# Altium integrated library Capacitors - Ceramic - 0201.IntLib: 1723 symbols (part 29 of 38)
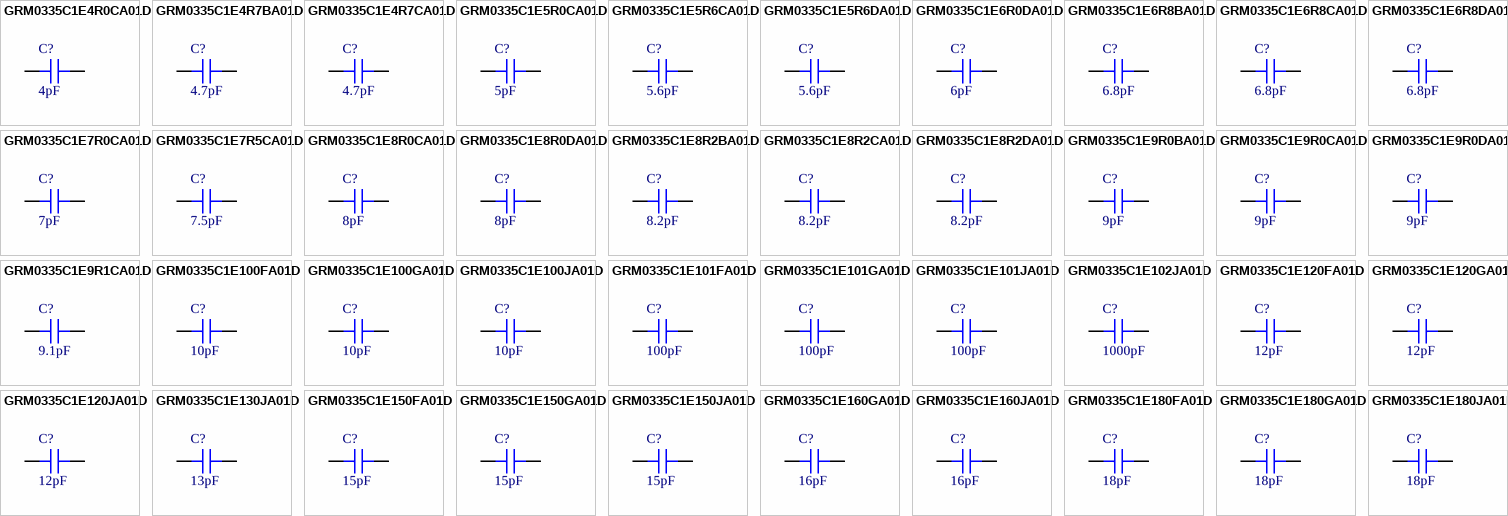
[diagram p71: symbols GRM0335C1E4R0CA01D to GRM0335C1E180JA01D]

## GRM0335C1E150FA01D
designator C?, comment 15pF
CAP CER 15PF 25V C0G/NP0 0201; Part Number: GRM0335C1E150FA01D; Manufacturer: Murata Electronics; Temperature Coefficient: C0G, NP0; Tolerance: ±1%; Value: 15pF; Applications: General Purpose; Capacitance: 15pF; ComponentLink1Description: Datasheet; ComponentLink1URL: https://www.murata.com/~/media/webrenewal/support/library/catalog/products/capacitor/mlcc/c02e.ashx?la=en-us; ComponentLink2Description: DigiKey Link; ComponentLink2URL: http://digikey.com/product-detail/en/murata-electronics/GRM0335C1E150FA01D/490-12675-1-ND/5797644; Device Package: 0201 (0603 Metric); LastUpdated: 9/2/2020 12:59:30 AM; Lifecycle Status: Active; Minimum Order: 1; Mounting Type: Surface Mount, MLCC; Operating Temperature: -55°C ~ 125°C; Package / Case: 0201 (0603 Metric); Packaging: CutTape; PartId: 575; Part Status: Active; Price: 0.10; Series: GRM; Size / Dimension: 0.024" L x 0.012" W (0.60mm x 0.30mm); Supplier 1: DigiKey; Supplier Part Number 1: 490-12675-1-ND; Thickness (Max): 0.013" (0.33mm); Voltage - Rated: 25V
footprint CAP 0201_0603
pins: 1, 2

## GRM0335C1E150GA01D
designator C?, comment 15pF
CAP CER 15PF 25V C0G/NP0 0201; Part Number: GRM0335C1E150GA01D; Manufacturer: Murata Electronics; Temperature Coefficient: C0G, NP0; Tolerance: ±2%; Value: 15pF; Applications: General Purpose; Capacitance: 15pF; ComponentLink1Description: Datasheet; ComponentLink1URL: https://search.murata.co.jp/Ceramy/image/img/A01X/G101/ENG/GRM0335C1E150GA01-01.pdf; ComponentLink2Description: DigiKey Link; ComponentLink2URL: http://digikey.com/product-detail/en/murata-electronics/GRM0335C1E150GA01D/490-14542-1-ND/6606148; Device Package: 0201 (0603 Metric); LastUpdated: 9/2/2020 12:59:34 AM; Lifecycle Status: Active; Minimum Order: 1; Mounting Type: Surface Mount, MLCC; Operating Temperature: -55°C ~ 125°C; Package / Case: 0201 (0603 Metric); Packaging: CutTape; PartId: 535; Part Status: Active; Price: 0.10; Series: GRM; Size / Dimension: 0.024" L x 0.012" W (0.60mm x 0.30mm); Supplier 1: DigiKey; Supplier Part Number 1: 490-14542-1-ND; Thickness (Max): 0.013" (0.33mm); Voltage - Rated: 25V
footprint CAP 0201_0603
pins: 1, 2

## GRM0335C1E150JA01D
designator C?, comment 15pF
CAP CER 15PF 25V C0G/NP0 0201; Part Number: GRM0335C1E150JA01D; Manufacturer: Murata Electronics; Temperature Coefficient: C0G, NP0; Tolerance: ±5%; Value: 15pF; Applications: General Purpose; Capacitance: 15pF; ComponentLink1Description: Datasheet; ComponentLink1URL: https://search.murata.co.jp/Ceramy/image/img/A01X/G101/ENG/GRM0335C1E150JA01-01.pdf; ComponentLink2Description: DigiKey Link; ComponentLink2URL: http://digikey.com/product-detail/en/murata-electronics/GRM0335C1E150JA01D/490-9658-1-ND/4934756; Device Package: 0201 (0603 Metric); LastUpdated: 9/2/2020 12:59:04 AM; Lifecycle Status: Active; Minimum Order: 1; Mounting Type: Surface Mount, MLCC; Operating Temperature: -55°C ~ 125°C; Package / Case: 0201 (0603 Metric); Packaging: CutTape; PartId: 876; Part Status: Active; Price: 0.10; Series: GRM; Size / Dimension: 0.024" L x 0.012" W (0.60mm x 0.30mm); Supplier 1: DigiKey; Supplier Part Number 1: 490-9658-1-ND; Thickness (Max): 0.013" (0.33mm); Voltage - Rated: 25V
footprint CAP 0201_0603
pins: 1, 2

## GRM0335C1E160GA01D
designator C?, comment 16pF
CAP CER 16PF 25V C0G/NP0 0201; Part Number: GRM0335C1E160GA01D; Manufacturer: Murata Electronics; Temperature Coefficient: C0G, NP0; Tolerance: ±2%; Value: 16pF; Applications: General Purpose; Capacitance: 16pF; ComponentLink1Description: Datasheet; ComponentLink1URL: https://search.murata.co.jp/Ceramy/image/img/A01X/G101/ENG/GRM0335C1E160GA01-01.pdf; ComponentLink2Description: DigiKey Link; ComponentLink2URL: http://digikey.com/product-detail/en/murata-electronics/GRM0335C1E160GA01D/490-14543-1-ND/6606149; Device Package: 0201 (0603 Metric); LastUpdated: 9/2/2020 1:00:16 AM; Lifecycle Status: Active; Minimum Order: 1; Mounting Type: Surface Mount, MLCC; Operating Temperature: -55°C ~ 125°C; Package / Case: 0201 (0603 Metric); Packaging: CutTape; PartId: 37; Part Status: Active; Price: 0.10; Series: GRM; Size / Dimension: 0.024" L x 0.012" W (0.60mm x 0.30mm); Supplier 1: DigiKey; Supplier Part Number 1: 490-14543-1-ND; Thickness (Max): 0.013" (0.33mm); Voltage - Rated: 25V
footprint CAP 0201_0603
pins: 1, 2

## GRM0335C1E160JA01D
designator C?, comment 16pF
CAP CER 16PF 25V NP0 0201; Part Number: GRM0335C1E160JA01D; Manufacturer: Murata Electronics; Temperature Coefficient: C0G, NP0; Tolerance: ±5%; Value: 16pF; Applications: General Purpose; Capacitance: 16pF; ComponentLink1Description: Datasheet; ComponentLink1URL: https://search.murata.co.jp/Ceramy/image/img/A01X/G101/ENG/GRM0335C1E160JA01-01.pdf; ComponentLink2Description: DigiKey Link; ComponentLink2URL: http://digikey.com/product-detail/en/murata-electronics/GRM0335C1E160JA01D/490-16712-1-ND/7595620; Device Package: 0201 (0603 Metric); LastUpdated: 9/2/2020 12:58:59 AM; Lifecycle Status: Active; Minimum Order: 1; Mounting Type: Surface Mount, MLCC; Operating Temperature: -55°C ~ 125°C; Package / Case: 0201 (0603 Metric); Packaging: CutTape; PartId: 941; Part Status: Active; Price: 0.10; Series: GRM; Size / Dimension: 0.024" L x 0.012" W (0.60mm x 0.30mm); Supplier 1: DigiKey; Supplier Part Number 1: 490-16712-1-ND; Thickness (Max): 0.013" (0.33mm); Voltage - Rated: 25V
footprint CAP 0201_0603
pins: 1, 2

## GRM0335C1E180FA01D
designator C?, comment 18pF
CAP CER 18PF 25V NP0 0201; Part Number: GRM0335C1E180FA01D; Manufacturer: Murata Electronics; Temperature Coefficient: C0G, NP0; Tolerance: ±1%; Value: 18pF; Applications: General Purpose; Capacitance: 18pF; ComponentLink1Description: Datasheet; ComponentLink1URL: https://search.murata.co.jp/Ceramy/image/img/A01X/G101/ENG/GRM0335C1E180FA01-01.pdf; ComponentLink2Description: DigiKey Link; ComponentLink2URL: http://digikey.com/product-detail/en/murata-electronics/GRM0335C1E180FA01D/490-17804-1-ND/8540040; Device Package: 0201 (0603 Metric); LastUpdated: 9/2/2020 1:00:16 AM; Lifecycle Status: Active; Minimum Order: 1; Mounting Type: Surface Mount, MLCC; Operating Temperature: -55°C ~ 125°C; Package / Case: 0201 (0603 Metric); Packaging: CutTape; PartId: 38; Part Status: Active; Price: 0.10; Series: GRM; Size / Dimension: 0.024" L x 0.012" W (0.60mm x 0.30mm); Supplier 1: DigiKey; Supplier Part Number 1: 490-17804-1-ND; Thickness (Max): 0.013" (0.33mm); Voltage - Rated: 25V
footprint CAP 0201_0603
pins: 1, 2

## GRM0335C1E180GA01D
designator C?, comment 18pF
CAP CER 18PF 25V C0G/NP0 0201; Part Number: GRM0335C1E180GA01D; Manufacturer: Murata Electronics; Temperature Coefficient: C0G, NP0; Tolerance: ±2%; Value: 18pF; Applications: General Purpose; Capacitance: 18pF; ComponentLink1Description: Datasheet; ComponentLink1URL: https://www.murata.com/~/media/webrenewal/support/library/catalog/products/capacitor/mlcc/c02e.ashx?la=en-us; ComponentLink2Description: DigiKey Link; ComponentLink2URL: http://digikey.com/product-detail/en/murata-electronics/GRM0335C1E180GA01D/490-11283-1-ND/5333123; Device Package: 0201 (0603 Metric); LastUpdated: 9/2/2020 12:59:36 AM; Lifecycle Status: Active; Minimum Order: 1; Mounting Type: Surface Mount, MLCC; Operating Temperature: -55°C ~ 125°C; Package / Case: 0201 (0603 Metric); Packaging: CutTape; PartId: 504; Part Status: Active; Price: 0.10; Series: GRM; Size / Dimension: 0.024" L x 0.012" W (0.60mm x 0.30mm); Supplier 1: DigiKey; Supplier Part Number 1: 490-11283-1-ND; Thickness (Max): 0.013" (0.33mm); Voltage - Rated: 25V
footprint CAP 0201_0603
pins: 1, 2

## GRM0335C1E180JA01D
designator C?, comment 18pF
CAP CER 18PF 25V C0G/NP0 0201; Part Number: GRM0335C1E180JA01D; Manufacturer: Murata Electronics; Temperature Coefficient: C0G, NP0; Tolerance: ±5%; Value: 18pF; Applications: General Purpose; Capacitance: 18pF; ComponentLink1Description: Datasheet; ComponentLink1URL: https://www.murata.com/~/media/webrenewal/support/library/catalog/products/capacitor/mlcc/c02e.ashx?la=en-us; ComponentLink2Description: DigiKey Link; ComponentLink2URL: http://digikey.com/product-detail/en/murata-electronics/GRM0335C1E180JA01D/490-9659-1-ND/4934758; Device Package: 0201 (0603 Metric); LastUpdated: 9/2/2020 12:59:04 AM; Lifecycle Status: Active; Minimum Order: 1; Mounting Type: Surface Mount, MLCC; Operating Temperature: -55°C ~ 125°C; Package / Case: 0201 (0603 Metric); Packaging: CutTape; PartId: 875; Part Status: Active; Price: 0.10; Series: GRM; Size / Dimension: 0.024" L x 0.012" W (0.60mm x 0.30mm); Supplier 1: DigiKey; Supplier Part Number 1: 490-9659-1-ND; Thickness (Max): 0.013" (0.33mm); Voltage - Rated: 25V
footprint CAP 0201_0603
pins: 1, 2

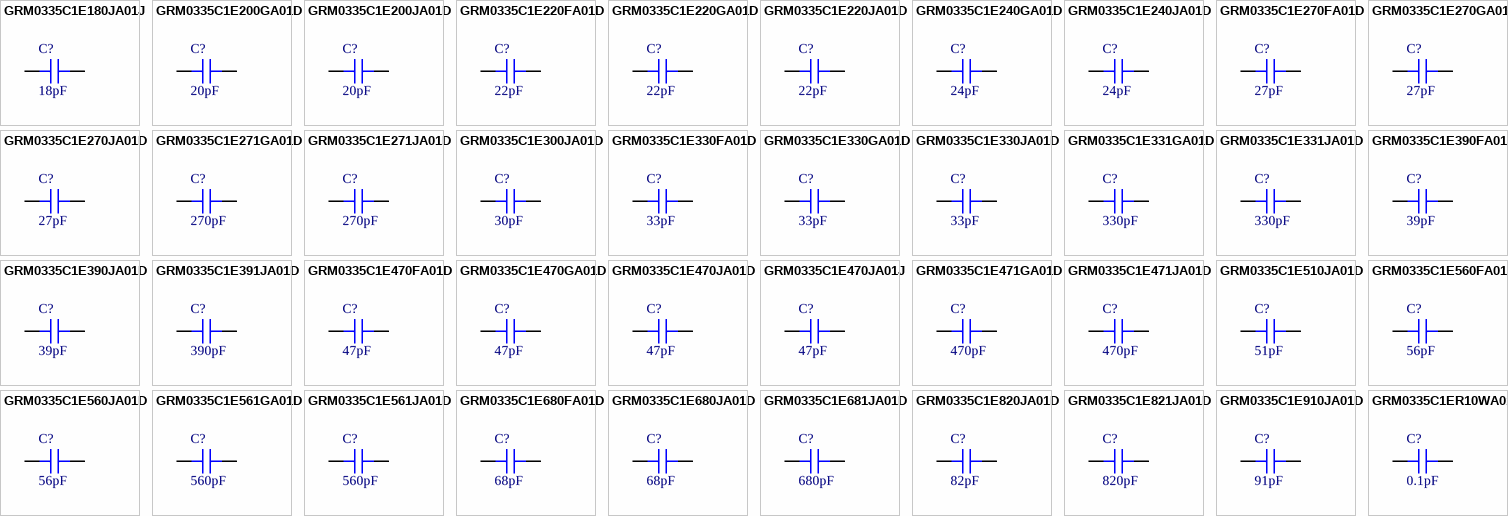
[diagram p32: symbols GRM0335C1E180JA01J to GRM0335C1ER10WA01D]

## GRM0335C1E180JA01J
designator C?, comment 18pF
CAP CER 18PF 25V C0G/NP0 0201; Part Number: GRM0335C1E180JA01J; Manufacturer: Murata Electronics; Temperature Coefficient: C0G, NP0; Tolerance: ±5%; Value: 18pF; Applications: General Purpose; Capacitance: 18pF; ComponentLink1Description: Datasheet; ComponentLink1URL: https://search.murata.co.jp/Ceramy/image/img/A01X/G101/ENG/GRM0335C1E180JA01-01.pdf; ComponentLink2Description: DigiKey Link; ComponentLink2URL: http://digikey.com/product-detail/en/murata-electronics/GRM0335C1E180JA01J/490-14544-1-ND/6606150; Device Package: 0201 (0603 Metric); LastUpdated: 9/2/2020 12:59:06 AM; Lifecycle Status: Active; Minimum Order: 1; Mounting Type: Surface Mount, MLCC; Operating Temperature: -55°C ~ 125°C; Package / Case: 0201 (0603 Metric); Packaging: CutTape; PartId: 857; Part Status: Active; Price: 0.10; Series: GRM; Size / Dimension: 0.024" L x 0.012" W (0.60mm x 0.30mm); Supplier 1: DigiKey; Supplier Part Number 1: 490-14544-1-ND; Thickness (Max): 0.013" (0.33mm); Voltage - Rated: 25V
footprint CAP 0201_0603
pins: 1, 2

## GRM0335C1E200GA01D
designator C?, comment 20pF
CAP CER 20PF 25V NP0 0201; Part Number: GRM0335C1E200GA01D; Manufacturer: Murata Electronics; Temperature Coefficient: C0G, NP0; Tolerance: ±2%; Value: 20pF; Applications: General Purpose; Capacitance: 20pF; ComponentLink1Description: Datasheet; ComponentLink1URL: https://search.murata.co.jp/Ceramy/image/img/A01X/G101/ENG/GRM0335C1E200GA01-01.pdf; ComponentLink2Description: DigiKey Link; ComponentLink2URL: http://digikey.com/product-detail/en/murata-electronics/GRM0335C1E200GA01D/490-17806-1-ND/8540042; Device Package: 0201 (0603 Metric); LastUpdated: 9/2/2020 12:58:18 AM; Lifecycle Status: Active; Minimum Order: 1; Mounting Type: Surface Mount, MLCC; Operating Temperature: -55°C ~ 125°C; Package / Case: 0201 (0603 Metric); Packaging: CutTape; PartId: 1409; Part Status: Active; Price: 0.10; Series: GRM; Size / Dimension: 0.024" L x 0.012" W (0.60mm x 0.30mm); Supplier 1: DigiKey; Supplier Part Number 1: 490-17806-1-ND; Thickness (Max): 0.013" (0.33mm); Voltage - Rated: 25V
footprint CAP 0201_0603
pins: 1, 2

## GRM0335C1E200JA01D
designator C?, comment 20pF
CAP CER 20PF 25V C0G/NP0 0201; Part Number: GRM0335C1E200JA01D; Manufacturer: Murata Electronics; Temperature Coefficient: C0G, NP0; Tolerance: ±5%; Value: 20pF; Applications: General Purpose; Capacitance: 20pF; ComponentLink1Description: Datasheet; ComponentLink1URL: https://www.murata.com/~/media/webrenewal/support/library/catalog/products/capacitor/mlcc/c02e.ashx?la=en-us; ComponentLink2Description: DigiKey Link; ComponentLink2URL: http://digikey.com/product-detail/en/murata-electronics/GRM0335C1E200JA01D/490-9618-1-ND/4865764; Device Package: 0201 (0603 Metric); LastUpdated: 9/2/2020 12:59:01 AM; Lifecycle Status: Active; Minimum Order: 1; Mounting Type: Surface Mount, MLCC; Operating Temperature: -55°C ~ 125°C; Package / Case: 0201 (0603 Metric); Packaging: CutTape; PartId: 915; Part Status: Active; Price: 0.10; Series: GRM; Size / Dimension: 0.024" L x 0.012" W (0.60mm x 0.30mm); Supplier 1: DigiKey; Supplier Part Number 1: 490-9618-1-ND; Thickness (Max): 0.013" (0.33mm); Voltage - Rated: 25V
footprint CAP 0201_0603
pins: 1, 2

## GRM0335C1E220FA01D
designator C?, comment 22pF
CAP CER 22PF 25V C0G/NP0 0201; Part Number: GRM0335C1E220FA01D; Manufacturer: Murata Electronics; Temperature Coefficient: C0G, NP0; Tolerance: ±1%; Value: 22pF; Applications: General Purpose; Capacitance: 22pF; ComponentLink1Description: Datasheet; ComponentLink1URL: https://search.murata.co.jp/Ceramy/image/img/A01X/G101/ENG/GRM0335C1E220FA01-01.pdf; ComponentLink2Description: DigiKey Link; ComponentLink2URL: http://digikey.com/product-detail/en/murata-electronics/GRM0335C1E220FA01D/490-14545-1-ND/6606151; Device Package: 0201 (0603 Metric); LastUpdated: 9/2/2020 12:58:14 AM; Lifecycle Status: Active; Minimum Order: 1; Mounting Type: Surface Mount, MLCC; Operating Temperature: -55°C ~ 125°C; Package / Case: 0201 (0603 Metric); Packaging: CutTape; PartId: 1443; Part Status: Active; Price: 0.10; Series: GRM; Size / Dimension: 0.024" L x 0.012" W (0.60mm x 0.30mm); Supplier 1: DigiKey; Supplier Part Number 1: 490-14545-1-ND; Thickness (Max): 0.013" (0.33mm); Voltage - Rated: 25V
footprint CAP 0201_0603
pins: 1, 2

## GRM0335C1E220GA01D
designator C?, comment 22pF
CAP CER 22PF 25V C0G/NP0 0201; Part Number: GRM0335C1E220GA01D; Manufacturer: Murata Electronics; Temperature Coefficient: C0G, NP0; Tolerance: ±2%; Value: 22pF; Applications: General Purpose; Capacitance: 22pF; ComponentLink1Description: Datasheet; ComponentLink1URL: https://search.murata.co.jp/Ceramy/image/img/A01X/G101/ENG/GRM0335C1E220GA01-01.pdf; ComponentLink2Description: DigiKey Link; ComponentLink2URL: http://digikey.com/product-detail/en/murata-electronics/GRM0335C1E220GA01D/490-11969-1-ND/5403178; Device Package: 0201 (0603 Metric); LastUpdated: 9/2/2020 12:59:34 AM; Lifecycle Status: Active; Minimum Order: 1; Mounting Type: Surface Mount, MLCC; Operating Temperature: -55°C ~ 125°C; Package / Case: 0201 (0603 Metric); Packaging: CutTape; PartId: 530; Part Status: Active; Price: 0.10; Series: GRM; Size / Dimension: 0.024" L x 0.012" W (0.60mm x 0.30mm); Supplier 1: DigiKey; Supplier Part Number 1: 490-11969-1-ND; Thickness (Max): 0.013" (0.33mm); Voltage - Rated: 25V
footprint CAP 0201_0603
pins: 1, 2

## GRM0335C1E220JA01D
designator C?, comment 22pF
CAP CER 22PF 25V C0G/NP0 0201; Part Number: GRM0335C1E220JA01D; Manufacturer: Murata Electronics; Temperature Coefficient: C0G, NP0; Tolerance: ±5%; Value: 22pF; Applications: General Purpose; Capacitance: 22pF; ComponentLink1Description: Datasheet; ComponentLink1URL: https://search.murata.co.jp/Ceramy/image/img/A01X/G101/ENG/GRM0335C1E220JA01-01.pdf; ComponentLink2Description: DigiKey Link; ComponentLink2URL: http://digikey.com/product-detail/en/murata-electronics/GRM0335C1E220JA01D/490-1253-1-ND/587960; Device Package: 0201 (0603 Metric); LastUpdated: 9/2/2020 12:59:02 AM; Lifecycle Status: Active; Minimum Order: 1; Mounting Type: Surface Mount, MLCC; Operating Temperature: -55°C ~ 125°C; Package / Case: 0201 (0603 Metric); Packaging: CutTape; PartId: 903; Part Status: Active; Price: 0.10; Series: GRM; Size / Dimension: 0.024" L x 0.012" W (0.60mm x 0.30mm); Supplier 1: DigiKey; Supplier Part Number 1: 490-1253-1-ND; Thickness (Max): 0.013" (0.33mm); Voltage - Rated: 25V
footprint CAP 0201_0603
pins: 1, 2

## GRM0335C1E240GA01D
designator C?, comment 24pF
CAP CER 24PF 25V C0G/NP0 0201; Part Number: GRM0335C1E240GA01D; Manufacturer: Murata Electronics; Temperature Coefficient: C0G, NP0; Tolerance: ±2%; Value: 24pF; Applications: General Purpose; Capacitance: 24pF; ComponentLink1Description: Datasheet; ComponentLink1URL: https://www.murata.com/~/media/webrenewal/support/library/catalog/products/capacitor/mlcc/c02e.ashx?la=en-us; ComponentLink2Description: DigiKey Link; ComponentLink2URL: http://digikey.com/product-detail/en/murata-electronics/GRM0335C1E240GA01D/490-11289-1-ND/5333129; Device Package: 0201 (0603 Metric); LastUpdated: 9/2/2020 12:59:33 AM; Lifecycle Status: Active; Minimum Order: 1; Mounting Type: Surface Mount, MLCC; Operating Temperature: -55°C ~ 125°C; Package / Case: 0201 (0603 Metric); Packaging: CutTape; PartId: 547; Part Status: Active; Price: 0.10; Series: GRM; Size / Dimension: 0.024" L x 0.012" W (0.60mm x 0.30mm); Supplier 1: DigiKey; Supplier Part Number 1: 490-11289-1-ND; Thickness (Max): 0.013" (0.33mm); Voltage - Rated: 25V
footprint CAP 0201_0603
pins: 1, 2

## GRM0335C1E240JA01D
designator C?, comment 24pF
CAP CER 24PF 25V C0G/NP0 0201; Part Number: GRM0335C1E240JA01D; Manufacturer: Murata Electronics; Temperature Coefficient: C0G, NP0; Tolerance: ±5%; Value: 24pF; Applications: General Purpose; Capacitance: 24pF; ComponentLink1Description: Datasheet; ComponentLink1URL: https://www.murata.com/~/media/webrenewal/support/library/catalog/products/capacitor/mlcc/c02e.ashx?la=en-us; ComponentLink2Description: DigiKey Link; ComponentLink2URL: http://digikey.com/product-detail/en/murata-electronics/GRM0335C1E240JA01D/490-13320-1-ND/5973332; Device Package: 0201 (0603 Metric); LastUpdated: 9/2/2020 12:58:59 AM; Lifecycle Status: Active; Minimum Order: 1; Mounting Type: Surface Mount, MLCC; Operating Temperature: -55°C ~ 125°C; Package / Case: 0201 (0603 Metric); Packaging: CutTape; PartId: 933; Part Status: Active; Price: 0.10; Series: GRM; Size / Dimension: 0.024" L x 0.012" W (0.60mm x 0.30mm); Supplier 1: DigiKey; Supplier Part Number 1: 490-13320-1-ND; Thickness (Max): 0.013" (0.33mm); Voltage - Rated: 25V
footprint CAP 0201_0603
pins: 1, 2

## GRM0335C1E270FA01D
designator C?, comment 27pF
CAP CER 27PF 25V NP0 0201; Part Number: GRM0335C1E270FA01D; Manufacturer: Murata Electronics; Temperature Coefficient: C0G, NP0; Tolerance: ±1%; Value: 27pF; Applications: General Purpose; Capacitance: 27pF; ComponentLink1Description: Datasheet; ComponentLink1URL: https://search.murata.co.jp/Ceramy/image/img/A01X/G101/ENG/GRM0335C1E270FA01-01.pdf; ComponentLink2Description: DigiKey Link; ComponentLink2URL: http://digikey.com/product-detail/en/murata-electronics/GRM0335C1E270FA01D/490-16713-1-ND/7595621; Device Package: 0201 (0603 Metric); LastUpdated: 9/2/2020 12:58:54 AM; Lifecycle Status: Active; Minimum Order: 1; Mounting Type: Surface Mount, MLCC; Operating Temperature: -55°C ~ 125°C; Package / Case: 0201 (0603 Metric); Packaging: CutTape; PartId: 997; Part Status: Active; Price: 0.10; Series: GRM; Size / Dimension: 0.024" L x 0.012" W (0.60mm x 0.30mm); Supplier 1: DigiKey; Supplier Part Number 1: 490-16713-1-ND; Thickness (Max): 0.013" (0.33mm); Voltage - Rated: 25V
footprint CAP 0201_0603
pins: 1, 2

## GRM0335C1E270GA01D
designator C?, comment 27pF
CAP CER 27PF 25V NP0 0201; Part Number: GRM0335C1E270GA01D; Manufacturer: Murata Electronics; Temperature Coefficient: C0G, NP0; Tolerance: ±2%; Value: 27pF; Applications: General Purpose; Capacitance: 27pF; ComponentLink1Description: Datasheet; ComponentLink1URL: https://search.murata.co.jp/Ceramy/image/img/A01X/G101/ENG/GRM0335C1E270GA01-01.pdf; ComponentLink2Description: DigiKey Link; ComponentLink2URL: http://digikey.com/product-detail/en/murata-electronics/GRM0335C1E270GA01D/490-16714-1-ND/7595622; Device Package: 0201 (0603 Metric); LastUpdated: 9/2/2020 12:59:33 AM; Lifecycle Status: Active; Minimum Order: 1; Mounting Type: Surface Mount, MLCC; Operating Temperature: -55°C ~ 125°C; Package / Case: 0201 (0603 Metric); Packaging: CutTape; PartId: 545; Part Status: Active; Price: 0.10; Series: GRM; Size / Dimension: 0.024" L x 0.012" W (0.60mm x 0.30mm); Supplier 1: DigiKey; Supplier Part Number 1: 490-16714-1-ND; Thickness (Max): 0.013" (0.33mm); Voltage - Rated: 25V
footprint CAP 0201_0603
pins: 1, 2

## GRM0335C1E270JA01D
designator C?, comment 27pF
CAP CER 27PF 25V C0G/NP0 0201; Part Number: GRM0335C1E270JA01D; Manufacturer: Murata Electronics; Temperature Coefficient: C0G, NP0; Tolerance: ±5%; Value: 27pF; Applications: General Purpose; Capacitance: 27pF; ComponentLink1Description: Datasheet; ComponentLink1URL: https://www.murata.com/~/media/webrenewal/support/library/catalog/products/capacitor/mlcc/c02e.ashx?la=en-us; ComponentLink2Description: DigiKey Link; ComponentLink2URL: http://digikey.com/product-detail/en/murata-electronics/GRM0335C1E270JA01D/490-3150-1-ND/702691; Device Package: 0201 (0603 Metric); LastUpdated: 9/2/2020 12:59:06 AM; Lifecycle Status: Active; Minimum Order: 1; Mounting Type: Surface Mount, MLCC; Operating Temperature: -55°C ~ 125°C; Package / Case: 0201 (0603 Metric); Packaging: CutTape; PartId: 858; Part Status: Active; Price: 0.10; Series: GRM; Size / Dimension: 0.024" L x 0.012" W (0.60mm x 0.30mm); Supplier 1: DigiKey; Supplier Part Number 1: 490-3150-1-ND; Thickness (Max): 0.013" (0.33mm); Voltage - Rated: 25V
footprint CAP 0201_0603
pins: 1, 2

## GRM0335C1E271GA01D
designator C?, comment 270pF
CAP CER 270PF 25V C0G/NP0 0201; Part Number: GRM0335C1E271GA01D; Manufacturer: Murata Electronics; Temperature Coefficient: C0G, NP0; Tolerance: ±2%; Value: 270pF; Applications: General Purpose; Capacitance: 270pF; ComponentLink1Description: Datasheet; ComponentLink1URL: https://search.murata.co.jp/Ceramy/image/img/A01X/G101/ENG/GRM0335C1E271GA01-01.pdf; ComponentLink2Description: DigiKey Link; ComponentLink2URL: http://digikey.com/product-detail/en/murata-electronics/GRM0335C1E271GA01D/490-16373-1-ND/7363355; Device Package: 0201 (0603 Metric); LastUpdated: 9/2/2020 1:00:15 AM; Lifecycle Status: Active; Minimum Order: 1; Mounting Type: Surface Mount, MLCC; Operating Temperature: -55°C ~ 125°C; Package / Case: 0201 (0603 Metric); Packaging: CutTape; PartId: 43; Part Status: Active; Price: 0.10; Series: GRM; Size / Dimension: 0.024" L x 0.012" W (0.60mm x 0.30mm); Supplier 1: DigiKey; Supplier Part Number 1: 490-16373-1-ND; Thickness (Max): 0.013" (0.33mm); Voltage - Rated: 25V
footprint CAP 0201_0603
pins: 1, 2

## GRM0335C1E271JA01D
designator C?, comment 270pF
CAP CER 270PF 25V C0G/NP0 0201; Part Number: GRM0335C1E271JA01D; Manufacturer: Murata Electronics; Temperature Coefficient: C0G, NP0; Tolerance: ±5%; Value: 270pF; Applications: General Purpose; Capacitance: 270pF; ComponentLink1Description: Datasheet; ComponentLink1URL: https://search.murata.co.jp/Ceramy/image/img/A01X/G101/ENG/GRM0335C1E271JA01-01.pdf; ComponentLink2Description: DigiKey Link; ComponentLink2URL: http://digikey.com/product-detail/en/murata-electronics/GRM0335C1E271JA01D/490-16995-1-ND/7601994; Device Package: 0201 (0603 Metric); LastUpdated: 9/2/2020 12:58:19 AM; Lifecycle Status: Active; Minimum Order: 1; Mounting Type: Surface Mount, MLCC; Operating Temperature: -55°C ~ 125°C; Package / Case: 0201 (0603 Metric); Packaging: CutTape; PartId: 1397; Part Status: Active; Price: 0.10; Series: GRM; Size / Dimension: 0.024" L x 0.012" W (0.60mm x 0.30mm); Supplier 1: DigiKey; Supplier Part Number 1: 490-16995-1-ND; Thickness (Max): 0.013" (0.33mm); Voltage - Rated: 25V
footprint CAP 0201_0603
pins: 1, 2

## GRM0335C1E300JA01D
designator C?, comment 30pF
CAP CER 30PF 25V C0G/NP0 0201; Part Number: GRM0335C1E300JA01D; Manufacturer: Murata Electronics; Temperature Coefficient: C0G, NP0; Tolerance: ±5%; Value: 30pF; Applications: General Purpose; Capacitance: 30pF; ComponentLink1Description: Datasheet; ComponentLink1URL: https://www.murata.com/~/media/webrenewal/support/library/catalog/products/capacitor/mlcc/c02e.ashx?la=en-us; ComponentLink2Description: DigiKey Link; ComponentLink2URL: http://digikey.com/product-detail/en/murata-electronics/GRM0335C1E300JA01D/490-12677-1-ND/5797646; Device Package: 0201 (0603 Metric); LastUpdated: 9/2/2020 12:59:01 AM; Lifecycle Status: Active; Minimum Order: 1; Mounting Type: Surface Mount, MLCC; Operating Temperature: -55°C ~ 125°C; Package / Case: 0201 (0603 Metric); Packaging: CutTape; PartId: 916; Part Status: Active; Price: 0.10; Series: GRM; Size / Dimension: 0.024" L x 0.012" W (0.60mm x 0.30mm); Supplier 1: DigiKey; Supplier Part Number 1: 490-12677-1-ND; Thickness (Max): 0.013" (0.33mm); Voltage - Rated: 25V
footprint CAP 0201_0603
pins: 1, 2

## GRM0335C1E330FA01D
designator C?, comment 33pF
CAP CER 33PF 25V C0G/NP0 0201; Part Number: GRM0335C1E330FA01D; Manufacturer: Murata Electronics; Temperature Coefficient: C0G, NP0; Tolerance: ±1%; Value: 33pF; Applications: General Purpose; Capacitance: 33pF; ComponentLink1Description: Datasheet; ComponentLink1URL: https://search.murata.co.jp/Ceramy/image/img/A01X/G101/ENG/GRM0335C1E330FA01-01.pdf; ComponentLink2Description: DigiKey Link; ComponentLink2URL: http://digikey.com/product-detail/en/murata-electronics/GRM0335C1E330FA01D/490-14546-1-ND/6606152; Device Package: 0201 (0603 Metric); LastUpdated: 9/2/2020 12:58:54 AM; Lifecycle Status: Active; Minimum Order: 1; Mounting Type: Surface Mount, MLCC; Operating Temperature: -55°C ~ 125°C; Package / Case: 0201 (0603 Metric); Packaging: CutTape; PartId: 996; Part Status: Active; Price: 0.10; Series: GRM; Size / Dimension: 0.024" L x 0.012" W (0.60mm x 0.30mm); Supplier 1: DigiKey; Supplier Part Number 1: 490-14546-1-ND; Thickness (Max): 0.013" (0.33mm); Voltage - Rated: 25V
footprint CAP 0201_0603
pins: 1, 2

## GRM0335C1E330GA01D
designator C?, comment 33pF
CAP CER 33PF 25V C0G/NP0 0201; Part Number: GRM0335C1E330GA01D; Manufacturer: Murata Electronics; Temperature Coefficient: C0G, NP0; Tolerance: ±2%; Value: 33pF; Applications: General Purpose; Capacitance: 33pF; ComponentLink1Description: Datasheet; ComponentLink1URL: https://search.murata.co.jp/Ceramy/image/img/A01X/G101/ENG/GRM0335C1E330GA01-01.pdf; ComponentLink2Description: DigiKey Link; ComponentLink2URL: http://digikey.com/product-detail/en/murata-electronics/GRM0335C1E330GA01D/490-14547-1-ND/6606153; Device Package: 0201 (0603 Metric); LastUpdated: 9/2/2020 12:58:14 AM; Lifecycle Status: Active; Minimum Order: 1; Mounting Type: Surface Mount, MLCC; Operating Temperature: -55°C ~ 125°C; Package / Case: 0201 (0603 Metric); Packaging: CutTape; PartId: 1445; Part Status: Active; Price: 0.10; Series: GRM; Size / Dimension: 0.024" L x 0.012" W (0.60mm x 0.30mm); Supplier 1: DigiKey; Supplier Part Number 1: 490-14547-1-ND; Thickness (Max): 0.013" (0.33mm); Voltage - Rated: 25V
footprint CAP 0201_0603
pins: 1, 2

## GRM0335C1E330JA01D
designator C?, comment 33pF
CAP CER 33PF 25V C0G/NP0 0201; Part Number: GRM0335C1E330JA01D; Manufacturer: Murata Electronics; Temperature Coefficient: C0G, NP0; Tolerance: ±5%; Value: 33pF; Applications: General Purpose; Capacitance: 33pF; ComponentLink1Description: Datasheet; ComponentLink1URL: https://search.murata.co.jp/Ceramy/image/img/A01X/G101/ENG/GRM0335C1E330JA01-01.pdf; ComponentLink2Description: DigiKey Link; ComponentLink2URL: http://digikey.com/product-detail/en/murata-electronics/GRM0335C1E330JA01D/490-10678-1-ND/5251427; Device Package: 0201 (0603 Metric); LastUpdated: 9/2/2020 12:59:04 AM; Lifecycle Status: Active; Minimum Order: 1; Mounting Type: Surface Mount, MLCC; Operating Temperature: -55°C ~ 125°C; Package / Case: 0201 (0603 Metric); Packaging: CutTape; PartId: 877; Part Status: Active; Price: 0.10; Series: GRM; Size / Dimension: 0.024" L x 0.012" W (0.60mm x 0.30mm); Supplier 1: DigiKey; Supplier Part Number 1: 490-10678-1-ND; Thickness (Max): 0.013" (0.33mm); Voltage - Rated: 25V
footprint CAP 0201_0603
pins: 1, 2

## GRM0335C1E331GA01D
designator C?, comment 330pF
CAP CER 330PF 25V C0G/NP0 0201; Part Number: GRM0335C1E331GA01D; Manufacturer: Murata Electronics; Temperature Coefficient: C0G, NP0; Tolerance: ±2%; Value: 330pF; Applications: General Purpose; Capacitance: 330pF; ComponentLink1Description: Datasheet; ComponentLink1URL: https://search.murata.co.jp/Ceramy/image/img/A01X/G101/ENG/GRM0335C1E331GA01-01.pdf; ComponentLink2Description: DigiKey Link; ComponentLink2URL: http://digikey.com/product-detail/en/murata-electronics/GRM0335C1E331GA01D/490-16372-1-ND/7363354; Device Package: 0201 (0603 Metric); LastUpdated: 9/2/2020 12:58:16 AM; Lifecycle Status: Active; Minimum Order: 1; Mounting Type: Surface Mount, MLCC; Operating Temperature: -55°C ~ 125°C; Package / Case: 0201 (0603 Metric); Packaging: CutTape; PartId: 1426; Part Status: Active; Price: 0.10; Series: GRM; Size / Dimension: 0.024" L x 0.012" W (0.60mm x 0.30mm); Supplier 1: DigiKey; Supplier Part Number 1: 490-16372-1-ND; Thickness (Max): 0.013" (0.33mm); Voltage - Rated: 25V
footprint CAP 0201_0603
pins: 1, 2

## GRM0335C1E331JA01D
designator C?, comment 330pF
CAP CER 330PF 25V C0G 0201; Part Number: GRM0335C1E331JA01D; Manufacturer: Murata Electronics; Temperature Coefficient: C0G, NP0; Tolerance: ±5%; Value: 330pF; Applications: General Purpose; Capacitance: 330pF; ComponentLink1Description: Datasheet; ComponentLink1URL: https://search.murata.co.jp/Ceramy/image/img/A01X/G101/ENG/GRM0335C1E331JA01-01.pdf; ComponentLink2Description: DigiKey Link; ComponentLink2URL: http://digikey.com/product-detail/en/murata-electronics/GRM0335C1E331JA01D/490-14331-1-ND/6577249; Device Package: 0201 (0603 Metric); LastUpdated: 9/2/2020 12:59:18 AM; Lifecycle Status: Active; Minimum Order: 1; Mounting Type: Surface Mount, MLCC; Operating Temperature: -55°C ~ 125°C; Package / Case: 0201 (0603 Metric); Packaging: CutTape; PartId: 712; Part Status: Active; Price: 0.10; Series: GRM; Size / Dimension: 0.024" L x 0.012" W (0.60mm x 0.30mm); Supplier 1: DigiKey; Supplier Part Number 1: 490-14331-1-ND; Thickness (Max): 0.013" (0.33mm); Voltage - Rated: 25V
footprint CAP 0201_0603
pins: 1, 2

## GRM0335C1E390FA01D
designator C?, comment 39pF
CAP CER 39PF 25V NP0 0201; Part Number: GRM0335C1E390FA01D; Manufacturer: Murata Electronics; Temperature Coefficient: C0G, NP0; Tolerance: ±1%; Value: 39pF; Applications: General Purpose; Capacitance: 39pF; ComponentLink1Description: Datasheet; ComponentLink1URL: https://search.murata.co.jp/Ceramy/image/img/A01X/G101/ENG/GRM0335C1E390FA01-01.pdf; ComponentLink2Description: DigiKey Link; ComponentLink2URL: http://digikey.com/product-detail/en/murata-electronics/GRM0335C1E390FA01D/490-16715-1-ND/7595623; Device Package: 0201 (0603 Metric); LastUpdated: 9/2/2020 12:58:54 AM; Lifecycle Status: Active; Minimum Order: 1; Mounting Type: Surface Mount, MLCC; Operating Temperature: -55°C ~ 125°C; Package / Case: 0201 (0603 Metric); Packaging: CutTape; PartId: 998; Part Status: Active; Price: 0.10; Series: GRM; Size / Dimension: 0.024" L x 0.012" W (0.60mm x 0.30mm); Supplier 1: DigiKey; Supplier Part Number 1: 490-16715-1-ND; Thickness (Max): 0.013" (0.33mm); Voltage - Rated: 25V
footprint CAP 0201_0603
pins: 1, 2

## GRM0335C1E390JA01D
designator C?, comment 39pF
CAP CER 39PF 25V C0G/NP0 0201; Part Number: GRM0335C1E390JA01D; Manufacturer: Murata Electronics; Temperature Coefficient: C0G, NP0; Tolerance: ±5%; Value: 39pF; Applications: General Purpose; Capacitance: 39pF; ComponentLink1Description: Datasheet; ComponentLink1URL: https://www.murata.com/~/media/webrenewal/support/library/catalog/products/capacitor/mlcc/c02e.ashx?la=en-us; ComponentLink2Description: DigiKey Link; ComponentLink2URL: http://digikey.com/product-detail/en/murata-electronics/GRM0335C1E390JA01D/490-11295-1-ND/5333135; Device Package: 0201 (0603 Metric); LastUpdated: 9/2/2020 12:59:00 AM; Lifecycle Status: Active; Minimum Order: 1; Mounting Type: Surface Mount, MLCC; Operating Temperature: -55°C ~ 125°C; Package / Case: 0201 (0603 Metric); Packaging: CutTape; PartId: 919; Part Status: Active; Price: 0.10; Series: GRM; Size / Dimension: 0.024" L x 0.012" W (0.60mm x 0.30mm); Supplier 1: DigiKey; Supplier Part Number 1: 490-11295-1-ND; Thickness (Max): 0.013" (0.33mm); Voltage - Rated: 25V
footprint CAP 0201_0603
pins: 1, 2

## GRM0335C1E391JA01D
designator C?, comment 390pF
CAP CER 390PF 25V C0G/NP0 0201; Part Number: GRM0335C1E391JA01D; Manufacturer: Murata Electronics; Temperature Coefficient: C0G, NP0; Tolerance: ±5%; Value: 390pF; Applications: General Purpose; Capacitance: 390pF; ComponentLink1Description: Datasheet; ComponentLink1URL: https://search.murata.co.jp/Ceramy/image/img/A01X/G101/ENG/GRM0335C1E391JA01-01.pdf; ComponentLink2Description: DigiKey Link; ComponentLink2URL: http://digikey.com/product-detail/en/murata-electronics/GRM0335C1E391JA01D/490-16371-1-ND/7363353; Device Package: 0201 (0603 Metric); LastUpdated: 9/2/2020 12:59:30 AM; Lifecycle Status: Active; Minimum Order: 1; Mounting Type: Surface Mount, MLCC; Operating Temperature: -55°C ~ 125°C; Package / Case: 0201 (0603 Metric); Packaging: CutTape; PartId: 580; Part Status: Active; Price: 0.10; Series: GRM; Size / Dimension: 0.024" L x 0.012" W (0.60mm x 0.30mm); Supplier 1: DigiKey; Supplier Part Number 1: 490-16371-1-ND; Thickness (Max): 0.013" (0.33mm); Voltage - Rated: 25V
footprint CAP 0201_0603
pins: 1, 2

## GRM0335C1E470FA01D
designator C?, comment 47pF
CAP CER 47PF 25V C0G/NP0 0201; Part Number: GRM0335C1E470FA01D; Manufacturer: Murata Electronics; Temperature Coefficient: C0G, NP0; Tolerance: ±1%; Value: 47pF; Applications: General Purpose; Capacitance: 47pF; ComponentLink1Description: Datasheet; ComponentLink1URL: https://search.murata.co.jp/Ceramy/image/img/A01X/G101/ENG/GRM0335C1E470FA01-01.pdf; ComponentLink2Description: DigiKey Link; ComponentLink2URL: http://digikey.com/product-detail/en/murata-electronics/GRM0335C1E470FA01D/490-11298-1-ND/5333138; Device Package: 0201 (0603 Metric); LastUpdated: 9/2/2020 12:59:30 AM; Lifecycle Status: Active; Minimum Order: 1; Mounting Type: Surface Mount, MLCC; Operating Temperature: -55°C ~ 125°C; Package / Case: 0201 (0603 Metric); Packaging: CutTape; PartId: 578; Part Status: Active; Price: 0.10; Series: GRM; Size / Dimension: 0.024" L x 0.012" W (0.60mm x 0.30mm); Supplier 1: DigiKey; Supplier Part Number 1: 490-11298-1-ND; Thickness (Max): 0.013" (0.33mm); Voltage - Rated: 25V
footprint CAP 0201_0603
pins: 1, 2

## GRM0335C1E470GA01D
designator C?, comment 47pF
CAP CER 47PF 25V NP0 0201; Part Number: GRM0335C1E470GA01D; Manufacturer: Murata Electronics; Temperature Coefficient: C0G, NP0; Tolerance: ±2%; Value: 47pF; Applications: General Purpose; Capacitance: 47pF; ComponentLink1Description: Datasheet; ComponentLink1URL: https://search.murata.co.jp/Ceramy/image/img/A01X/G101/ENG/GRM0335C1E470GA01-01.pdf; ComponentLink2Description: DigiKey Link; ComponentLink2URL: http://digikey.com/product-detail/en/murata-electronics/GRM0335C1E470GA01D/490-17807-1-ND/8540043; Device Package: 0201 (0603 Metric); LastUpdated: 9/2/2020 12:59:33 AM; Lifecycle Status: Active; Minimum Order: 1; Mounting Type: Surface Mount, MLCC; Operating Temperature: -55°C ~ 125°C; Package / Case: 0201 (0603 Metric); Packaging: CutTape; PartId: 546; Part Status: Active; Price: 0.10; Series: GRM; Size / Dimension: 0.024" L x 0.012" W (0.60mm x 0.30mm); Supplier 1: DigiKey; Supplier Part Number 1: 490-17807-1-ND; Thickness (Max): 0.013" (0.33mm); Voltage - Rated: 25V
footprint CAP 0201_0603
pins: 1, 2

## GRM0335C1E470JA01D
designator C?, comment 47pF
CAP CER 47PF 25V C0G/NP0 0201; Part Number: GRM0335C1E470JA01D; Manufacturer: Murata Electronics; Temperature Coefficient: C0G, NP0; Tolerance: ±5%; Value: 47pF; Applications: General Purpose; Capacitance: 47pF; ComponentLink1Description: Datasheet; ComponentLink1URL: https://search.murata.co.jp/Ceramy/image/img/A01X/G101/ENG/GRM0335C1E470JA01-01.pdf; ComponentLink2Description: DigiKey Link; ComponentLink2URL: http://digikey.com/product-detail/en/murata-electronics/GRM0335C1E470JA01D/490-1256-1-ND/587968; Device Package: 0201 (0603 Metric); LastUpdated: 9/2/2020 12:59:04 AM; Lifecycle Status: Active; Minimum Order: 1; Mounting Type: Surface Mount, MLCC; Operating Temperature: -55°C ~ 125°C; Package / Case: 0201 (0603 Metric); Packaging: CutTape; PartId: 872; Part Status: Active; Price: 0.10; Series: GRM; Size / Dimension: 0.024" L x 0.012" W (0.60mm x 0.30mm); Supplier 1: DigiKey; Supplier Part Number 1: 490-1256-1-ND; Thickness (Max): 0.013" (0.33mm); Voltage - Rated: 25V
footprint CAP 0201_0603
pins: 1, 2

## GRM0335C1E470JA01J
designator C?, comment 47pF
CAP CER 47PF 25V C0G/NP0 0201; Part Number: GRM0335C1E470JA01J; Manufacturer: Murata Electronics; Temperature Coefficient: C0G, NP0; Tolerance: ±5%; Value: 47pF; Applications: General Purpose; Capacitance: 47pF; ComponentLink1Description: Datasheet; ComponentLink1URL: https://search.murata.co.jp/Ceramy/image/img/A01X/G101/ENG/GRM0335C1E470JA01-01.pdf; ComponentLink2Description: DigiKey Link; ComponentLink2URL: http://digikey.com/product-detail/en/murata-electronics/GRM0335C1E470JA01J/490-14548-1-ND/6606154; Device Package: 0201 (0603 Metric); LastUpdated: 9/2/2020 12:59:06 AM; Lifecycle Status: Active; Minimum Order: 1; Mounting Type: Surface Mount, MLCC; Operating Temperature: -55°C ~ 125°C; Package / Case: 0201 (0603 Metric); Packaging: CutTape; PartId: 855; Part Status: Active; Price: 0.10; Series: GRM; Size / Dimension: 0.024" L x 0.012" W (0.60mm x 0.30mm); Supplier 1: DigiKey; Supplier Part Number 1: 490-14548-1-ND; Thickness (Max): 0.013" (0.33mm); Voltage - Rated: 25V
footprint CAP 0201_0603
pins: 1, 2

## GRM0335C1E471GA01D
designator C?, comment 470pF
CAP CER 470PF 25V C0G/NP0 0201; Part Number: GRM0335C1E471GA01D; Manufacturer: Murata Electronics; Temperature Coefficient: C0G, NP0; Tolerance: ±2%; Value: 470pF; Applications: General Purpose; Capacitance: 470pF; ComponentLink1Description: Datasheet; ComponentLink1URL: https://search.murata.co.jp/Ceramy/image/img/A01X/G101/ENG/GRM0335C1E471GA01-01.pdf; ComponentLink2Description: DigiKey Link; ComponentLink2URL: http://digikey.com/product-detail/en/murata-electronics/GRM0335C1E471GA01D/490-14362-1-ND/6606823; Device Package: 0201 (0603 Metric); LastUpdated: 9/2/2020 12:57:57 AM; Lifecycle Status: Active; Minimum Order: 1; Mounting Type: Surface Mount, MLCC; Operating Temperature: -55°C ~ 125°C; Package / Case: 0201 (0603 Metric); Packaging: TapeAndReel; PartId: 1635; Part Status: Active; Price: 0.01; Series: GRM; Size / Dimension: 0.024" L x 0.012" W (0.60mm x 0.30mm); Supplier 1: DigiKey; Supplier Part Number 1: 490-14362-1-ND; Thickness (Max): 0.013" (0.33mm); Voltage - Rated: 25V
footprint CAP 0201_0603
pins: 1, 2

## GRM0335C1E471JA01D
designator C?, comment 470pF
CAP CER 470PF 25V C0G/NP0 0201; Part Number: GRM0335C1E471JA01D; Manufacturer: Murata Electronics; Temperature Coefficient: C0G, NP0; Tolerance: ±5%; Value: 470pF; Applications: General Purpose; Capacitance: 470pF; ComponentLink1Description: Datasheet; ComponentLink1URL: https://search.murata.co.jp/Ceramy/image/img/A01X/G101/ENG/GRM0335C1E471JA01-01.pdf; ComponentLink2Description: DigiKey Link; ComponentLink2URL: http://digikey.com/product-detail/en/murata-electronics/GRM0335C1E471JA01D/490-16370-1-ND/7363352; Device Package: 0201 (0603 Metric); LastUpdated: 9/2/2020 12:59:30 AM; Lifecycle Status: Active; Minimum Order: 1; Mounting Type: Surface Mount, MLCC; Operating Temperature: -55°C ~ 125°C; Package / Case: 0201 (0603 Metric); Packaging: CutTape; PartId: 579; Part Status: Active; Price: 0.10; Series: GRM; Size / Dimension: 0.024" L x 0.012" W (0.60mm x 0.30mm); Supplier 1: DigiKey; Supplier Part Number 1: 490-16370-1-ND; Thickness (Max): 0.013" (0.33mm); Voltage - Rated: 25V
footprint CAP 0201_0603
pins: 1, 2

## GRM0335C1E510JA01D
designator C?, comment 51pF
CAP CER 51PF 25V C0G/NP0 0201; Part Number: GRM0335C1E510JA01D; Manufacturer: Murata Electronics; Temperature Coefficient: C0G, NP0; Tolerance: ±5%; Value: 51pF; Applications: General Purpose; Capacitance: 51pF; ComponentLink1Description: Datasheet; ComponentLink1URL: https://search.murata.co.jp/Ceramy/image/img/A01X/G101/ENG/GRM0335C1E510JA01-01.pdf; ComponentLink2Description: DigiKey Link; ComponentLink2URL: http://digikey.com/product-detail/en/murata-electronics/GRM0335C1E510JA01D/490-14550-1-ND/6606156; Device Package: 0201 (0603 Metric); LastUpdated: 9/2/2020 12:58:35 AM; Lifecycle Status: Active; Minimum Order: 1; Mounting Type: Surface Mount, MLCC; Operating Temperature: -55°C ~ 125°C; Package / Case: 0201 (0603 Metric); Packaging: CutTape; PartId: 1219; Part Status: Active; Price: 0.10; Series: GRM; Size / Dimension: 0.024" L x 0.012" W (0.60mm x 0.30mm); Supplier 1: DigiKey; Supplier Part Number 1: 490-14550-1-ND; Thickness (Max): 0.013" (0.33mm); Voltage - Rated: 25V
footprint CAP 0201_0603
pins: 1, 2

## GRM0335C1E560FA01D
designator C?, comment 56pF
CAP CER 56PF 25V NP0 0201; Part Number: GRM0335C1E560FA01D; Manufacturer: Murata Electronics; Temperature Coefficient: C0G, NP0; Tolerance: ±1%; Value: 56pF; Applications: General Purpose; Capacitance: 56pF; ComponentLink1Description: Datasheet; ComponentLink1URL: https://search.murata.co.jp/Ceramy/image/img/A01X/G101/ENG/GRM0335C1E560FA01-01.pdf; ComponentLink2Description: DigiKey Link; ComponentLink2URL: http://digikey.com/product-detail/en/murata-electronics/GRM0335C1E560FA01D/490-17808-1-ND/8540044; Device Package: 0201 (0603 Metric); LastUpdated: 9/2/2020 12:58:54 AM; Lifecycle Status: Active; Minimum Order: 1; Mounting Type: Surface Mount, MLCC; Operating Temperature: -55°C ~ 125°C; Package / Case: 0201 (0603 Metric); Packaging: CutTape; PartId: 995; Part Status: Active; Price: 0.10; Series: GRM; Size / Dimension: 0.024" L x 0.012" W (0.60mm x 0.30mm); Supplier 1: DigiKey; Supplier Part Number 1: 490-17808-1-ND; Thickness (Max): 0.013" (0.33mm); Voltage - Rated: 25V
footprint CAP 0201_0603
pins: 1, 2

## GRM0335C1E560JA01D
designator C?, comment 56pF
CAP CER 56PF 25V C0G/NP0 0201; Part Number: GRM0335C1E560JA01D; Manufacturer: Murata Electronics; Temperature Coefficient: C0G, NP0; Tolerance: ±5%; Value: 56pF; Applications: General Purpose; Capacitance: 56pF; ComponentLink1Description: Datasheet; ComponentLink1URL: https://search.murata.co.jp/Ceramy/image/img/A01X/G101/ENG/GRM0335C1E560JA01-01.pdf; ComponentLink2Description: DigiKey Link; ComponentLink2URL: http://digikey.com/product-detail/en/murata-electronics/GRM0335C1E560JA01D/490-3155-1-ND/702696; Device Package: 0201 (0603 Metric); LastUpdated: 9/2/2020 12:59:02 AM; Lifecycle Status: Active; Minimum Order: 1; Mounting Type: Surface Mount, MLCC; Operating Temperature: -55°C ~ 125°C; Package / Case: 0201 (0603 Metric); Packaging: CutTape; PartId: 904; Part Status: Active; Price: 0.10; Series: GRM; Size / Dimension: 0.024" L x 0.012" W (0.60mm x 0.30mm); Supplier 1: DigiKey; Supplier Part Number 1: 490-3155-1-ND; Thickness (Max): 0.013" (0.33mm); Voltage - Rated: 25V
footprint CAP 0201_0603
pins: 1, 2

## GRM0335C1E561GA01D
designator C?, comment 560pF
CAP CER 560PF 25V C0G/NP0 0201; Part Number: GRM0335C1E561GA01D; Manufacturer: Murata Electronics; Temperature Coefficient: C0G, NP0; Tolerance: ±2%; Value: 560pF; Applications: General Purpose; Capacitance: 560pF; ComponentLink1Description: Datasheet; ComponentLink1URL: https://search.murata.co.jp/Ceramy/image/img/A01X/G101/ENG/GRM0335C1E561GA01-01.pdf; ComponentLink2Description: DigiKey Link; ComponentLink2URL: http://digikey.com/product-detail/en/murata-electronics/GRM0335C1E561GA01D/490-16369-1-ND/7363351; Device Package: 0201 (0603 Metric); LastUpdated: 9/2/2020 12:59:31 AM; Lifecycle Status: Active; Minimum Order: 1; Mounting Type: Surface Mount, MLCC; Operating Temperature: -55°C ~ 125°C; Package / Case: 0201 (0603 Metric); Packaging: CutTape; PartId: 568; Part Status: Active; Price: 0.10; Series: GRM; Size / Dimension: 0.024" L x 0.012" W (0.60mm x 0.30mm); Supplier 1: DigiKey; Supplier Part Number 1: 490-16369-1-ND; Thickness (Max): 0.013" (0.33mm); Voltage - Rated: 25V
footprint CAP 0201_0603
pins: 1, 2

## GRM0335C1E561JA01D
designator C?, comment 560pF
CAP CER 560PF 25V C0G/NP0 0201; Part Number: GRM0335C1E561JA01D; Manufacturer: Murata Electronics; Temperature Coefficient: C0G, NP0; Tolerance: ±5%; Value: 560pF; Applications: General Purpose; Capacitance: 560pF; ComponentLink1Description: Datasheet; ComponentLink1URL: https://search.murata.co.jp/Ceramy/image/img/A01X/G101/ENG/GRM0335C1E561JA01-01.pdf; ComponentLink2Description: DigiKey Link; ComponentLink2URL: http://digikey.com/product-detail/en/murata-electronics/GRM0335C1E561JA01D/490-14862-1-ND/6624019; Device Package: 0201 (0603 Metric); LastUpdated: 9/2/2020 12:58:54 AM; Lifecycle Status: Active; Minimum Order: 1; Mounting Type: Surface Mount, MLCC; Operating Temperature: -55°C ~ 125°C; Package / Case: 0201 (0603 Metric); Packaging: CutTape; PartId: 994; Part Status: Active; Price: 0.10; Series: GRM; Size / Dimension: 0.024" L x 0.012" W (0.60mm x 0.30mm); Supplier 1: DigiKey; Supplier Part Number 1: 490-14862-1-ND; Thickness (Max): 0.013" (0.33mm); Voltage - Rated: 25V
footprint CAP 0201_0603
pins: 1, 2

## GRM0335C1E680FA01D
designator C?, comment 68pF
CAP CER 68PF 25V C0G/NP0 0201; Part Number: GRM0335C1E680FA01D; Manufacturer: Murata Electronics; Temperature Coefficient: C0G, NP0; Tolerance: ±1%; Value: 68pF; Applications: General Purpose; Capacitance: 68pF; ComponentLink1Description: Datasheet; ComponentLink1URL: https://search.murata.co.jp/Ceramy/image/img/A01X/G101/ENG/GRM0335C1E680FA01-01.pdf; ComponentLink2Description: DigiKey Link; ComponentLink2URL: http://digikey.com/product-detail/en/murata-electronics/GRM0335C1E680FA01D/490-13322-1-ND/5973334; Device Package: 0201 (0603 Metric); LastUpdated: 9/2/2020 12:58:54 AM; Lifecycle Status: Active; Minimum Order: 1; Mounting Type: Surface Mount, MLCC; Operating Temperature: -55°C ~ 125°C; Package / Case: 0201 (0603 Metric); Packaging: CutTape; PartId: 992; Part Status: Active; Price: 0.10; Series: GRM; Size / Dimension: 0.024" L x 0.012" W (0.60mm x 0.30mm); Supplier 1: DigiKey; Supplier Part Number 1: 490-13322-1-ND; Thickness (Max): 0.013" (0.33mm); Voltage - Rated: 25V
footprint CAP 0201_0603
pins: 1, 2

## GRM0335C1E680JA01D
designator C?, comment 68pF
CAP CER 68PF 25V C0G/NP0 0201; Part Number: GRM0335C1E680JA01D; Manufacturer: Murata Electronics; Temperature Coefficient: C0G, NP0; Tolerance: ±5%; Value: 68pF; Applications: General Purpose; Capacitance: 68pF; ComponentLink1Description: Datasheet; ComponentLink1URL: https://www.murata.com/~/media/webrenewal/support/library/catalog/products/capacitor/mlcc/c02e.ashx?la=en-us; ComponentLink2Description: DigiKey Link; ComponentLink2URL: http://digikey.com/product-detail/en/murata-electronics/GRM0335C1E680JA01D/490-11301-1-ND/5333141; Device Package: 0201 (0603 Metric); LastUpdated: 9/2/2020 12:59:00 AM; Lifecycle Status: Active; Minimum Order: 1; Mounting Type: Surface Mount, MLCC; Operating Temperature: -55°C ~ 125°C; Package / Case: 0201 (0603 Metric); Packaging: CutTape; PartId: 922; Part Status: Active; Price: 0.10; Series: GRM; Size / Dimension: 0.024" L x 0.012" W (0.60mm x 0.30mm); Supplier 1: DigiKey; Supplier Part Number 1: 490-11301-1-ND; Thickness (Max): 0.013" (0.33mm); Voltage - Rated: 25V
footprint CAP 0201_0603
pins: 1, 2

## GRM0335C1E681JA01D
designator C?, comment 680pF
CAP CER 680PF 25V C0G 0201; Part Number: GRM0335C1E681JA01D; Manufacturer: Murata Electronics; Temperature Coefficient: C0G, NP0; Tolerance: ±5%; Value: 680pF; Applications: General Purpose; Capacitance: 680pF; ComponentLink1Description: Datasheet; ComponentLink1URL: https://www.murata.com/~/media/webrenewal/support/library/catalog/products/capacitor/mlcc/c02e.ashx?la=en-us; ComponentLink2Description: DigiKey Link; ComponentLink2URL: http://digikey.com/product-detail/en/murata-electronics/GRM0335C1E681JA01D/490-14330-1-ND/6577248; Device Package: 0201 (0603 Metric); LastUpdated: 9/2/2020 12:59:18 AM; Lifecycle Status: Active; Minimum Order: 1; Mounting Type: Surface Mount, MLCC; Operating Temperature: -55°C ~ 125°C; Package / Case: 0201 (0603 Metric); Packaging: CutTape; PartId: 717; Part Status: Active; Price: 0.10; Series: GRM; Size / Dimension: 0.024" L x 0.012" W (0.60mm x 0.30mm); Supplier 1: DigiKey; Supplier Part Number 1: 490-14330-1-ND; Thickness (Max): 0.013" (0.33mm); Voltage - Rated: 25V
footprint CAP 0201_0603
pins: 1, 2

## GRM0335C1E820JA01D
designator C?, comment 82pF
CAP CER 82PF 25V C0G/NP0 0201; Part Number: GRM0335C1E820JA01D; Manufacturer: Murata Electronics; Temperature Coefficient: C0G, NP0; Tolerance: ±5%; Value: 82pF; Applications: General Purpose; Capacitance: 82pF; ComponentLink1Description: Datasheet; ComponentLink1URL: https://www.murata.com/~/media/webrenewal/support/library/catalog/products/capacitor/mlcc/c02e.ashx?la=en-us; ComponentLink2Description: DigiKey Link; ComponentLink2URL: http://digikey.com/product-detail/en/murata-electronics/GRM0335C1E820JA01D/490-11303-1-ND/5333143; Device Package: 0201 (0603 Metric); LastUpdated: 9/2/2020 12:59:02 AM; Lifecycle Status: Active; Minimum Order: 1; Mounting Type: Surface Mount, MLCC; Operating Temperature: -55°C ~ 125°C; Package / Case: 0201 (0603 Metric); Packaging: CutTape; PartId: 897; Part Status: Active; Price: 0.10; Series: GRM; Size / Dimension: 0.024" L x 0.012" W (0.60mm x 0.30mm); Supplier 1: DigiKey; Supplier Part Number 1: 490-11303-1-ND; Thickness (Max): 0.013" (0.33mm); Voltage - Rated: 25V
footprint CAP 0201_0603
pins: 1, 2

## GRM0335C1E821JA01D
designator C?, comment 820pF
CAP CER 820PF 25V C0G/NP0 0201; Part Number: GRM0335C1E821JA01D; Manufacturer: Murata Electronics; Temperature Coefficient: C0G, NP0; Tolerance: ±5%; Value: 820pF; Applications: General Purpose; Capacitance: 820pF; ComponentLink1Description: Datasheet; ComponentLink1URL: https://search.murata.co.jp/Ceramy/image/img/A01X/G101/ENG/GRM0335C1E821JA01-01.pdf; ComponentLink2Description: DigiKey Link; ComponentLink2URL: http://digikey.com/product-detail/en/murata-electronics/GRM0335C1E821JA01D/490-16368-1-ND/7363350; Device Package: 0201 (0603 Metric); LastUpdated: 9/2/2020 1:00:13 AM; Lifecycle Status: Active; Minimum Order: 1; Mounting Type: Surface Mount, MLCC; Operating Temperature: -55°C ~ 125°C; Package / Case: 0201 (0603 Metric); Packaging: CutTape; PartId: 69; Part Status: Active; Price: 0.10; Series: GRM; Size / Dimension: 0.024" L x 0.012" W (0.60mm x 0.30mm); Supplier 1: DigiKey; Supplier Part Number 1: 490-16368-1-ND; Thickness (Max): 0.013" (0.33mm); Voltage - Rated: 25V
footprint CAP 0201_0603
pins: 1, 2